# Altium schematic symbol library CMX60D20.SCHLIB: 1 symbol
Pins are listed as number, name and electrical type; pins without a type are passive.

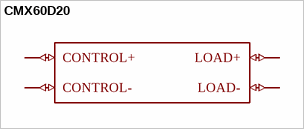
[diagram p0: symbol CMX60D20]

## CMX60D20
designator ?
GateName_1: G$1; SymbolName_1: CMX60D20; LibraryName: CMX60D20; DeviceSetName: CMX60D20; Package: CMX60D20
footprint CMX60D20
pins: CONTROL+ (io), CONTROL- (io), LOAD+ (io), LOAD- (io)